# Altium integrated library lib_raspberry.IntLib: 3 symbols
Pins are listed as number, name and electrical type; pins without a type are passive.

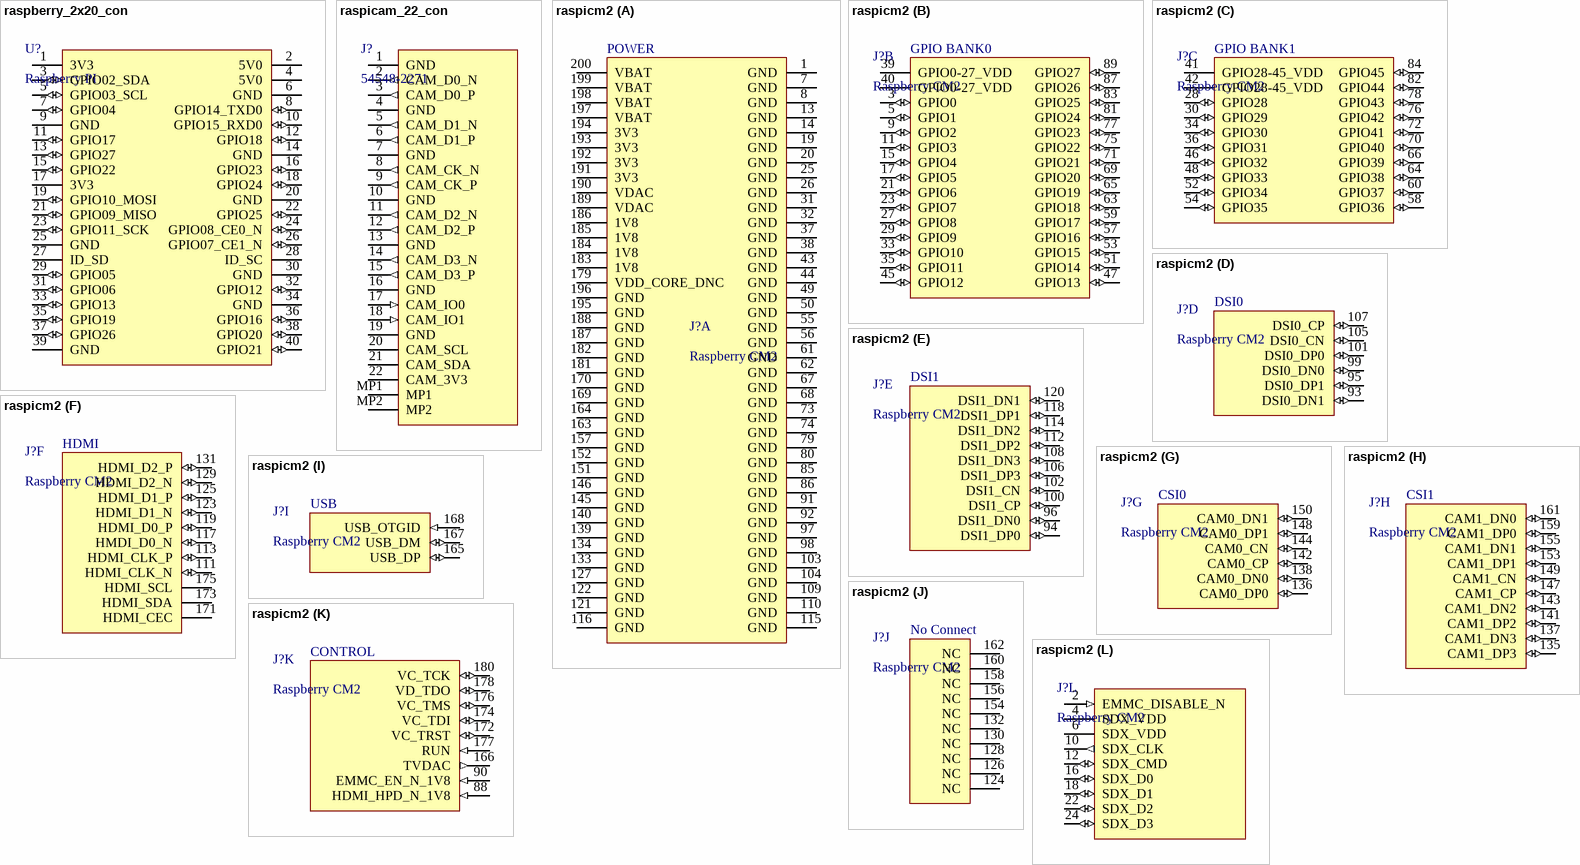
[diagram p0: symbols raspberry_2x20_con to raspicm2]

## raspberry_2x20_con
designator U?, comment Raspberry PI
Raspberry PI 2x20 connector
footprint raspi_male_con
pins: 1 3V3 (power), 2 5V0 (power), 3 GPIO02_SDA (io), 4 5V0 (power), 5 GPIO03_SCL (io), 6 GND (power), 7 GPIO04 (io), 8 GPIO14_TXD0 (io), 9 GND (power), 10 GPIO15_RXD0 (io), 11 GPIO17 (io), 12 GPIO18 (io), 13 GPIO27 (io), 14 GND (power), 15 GPIO22 (io), 16 GPIO23 (io), 17 3V3 (power), 18 GPIO24 (io), 19 GPIO10_MOSI (io), 20 GND (power), 21 GPIO09_MISO (io), 22 GPIO25 (io), 23 GPIO11_SCK (io), 24 GPIO08_CE0_N (io), 25 GND (power), 26 GPIO07_CE1_N (io), 27 ID_SD (oc), 28 ID_SC (oc), 29 GPIO05 (io), 30 GND (power), 31 GPIO06 (io), 32 GPIO12 (io), 33 GPIO13 (io), 34 GND (power), 35 GPIO19 (io), 36 GPIO16 (io), 37 GPIO26 (io), 38 GPIO20 (io), 39 GND (power), 40 GPIO21 (io)

## raspicam_22_con
designator J?, comment 54548-2271
0.5 mm Pitch Easy-On(TM) Type FPC Connector, 1.2 mm Mated Height, Right Angle, ZIF, SMT, Bottom Contact, 22 Circuits, -20 to 85 degC, ELV and RoHS Compliant, Tape and Reel; Manufacturer: Molex; Circuits (Loaded): 22; Stackable: No; Material - Plating Termination: Tin; PCB Retention: Yes; Entry Angle: 90degrees Angle; Material - Plating Mating: Gold; Current (Max per Contact): 0.5A; Material - Metal: Phosphor Bronze; Voltage (Max): 50V; Mated Height: 1.20mm; Pitch - Mating Interface: 0.50mm; Durability (mating cycles max): 20; PackageVersion: Rev. N, 06/2008; PackageDescription: 22-Lead FPC Connector, Pitch 0.5 mm; PackageReference: 54548-2271; ComponentLink2Description: Datasheet; PartNumber: 54548-2271; ComponentLink3URL: http://www.molex.com/pdm_docs/sd/545482171_sd.pdf; Contact Position: Bottom; Packing: Tape and Reel; ComponentLink1URL: http://www.molex.com/molex/index.jsp; Mounting Technology: Surface Mount; ComponentLink3Description: Package Specification; PCB Locator: No; ComponentLink2URL: http://www.molex.com/webdocs/datasheets/pdf/en-us/0545482271_FFC_FPC_CONNECTORS.pdf; Orientation: Right Angle; Number of Rows: 1; RoHS: TRUE; Polarized to PCB: Yes; ComponentLink1Description: Manufacturer URL
footprint MOLX-54548-2271 (FPC Connector, 22-Leads, Right Angle, Pitch 0.5 mm, Mated Height 1.2 mm, SMT)
pins: 1 GND (power), 2 CAM_D0_N (out), 3 CAM_D0_P (out), 4 GND (power), 5 CAM_D1_N (out), 6 CAM_D1_P (out), 7 GND (power), 8 CAM_CK_N (out), 9 CAM_CK_P (out), 10 GND (power), 11 CAM_D2_N (out), 12 CAM_D2_P (out), 13 GND (power), 14 CAM_D3_N (out), 15 CAM_D3_P (out), 16 GND (power), 17 CAM_IO0 (in), 18 CAM_IO1 (in), 19 GND (power), 20 CAM_SCL (oc), 21 CAM_SDA (oc), 22 CAM_3V3 (power), MP1, MP2

## raspicm2
designator J?, comment Raspberry CM2
footprint raspi_cm3
part A pins: 1 GND (power), 7 GND (power), 8 GND (power), 13 GND (power), 14 GND (power), 19 GND (power), 20 GND (power), 25 GND (power), 26 GND (power), 31 GND (power), 32 GND (power), 37 GND (power), 38 GND (power), 43 GND (power), 44 GND (power), 49 GND (power), 50 GND (power), 55 GND (power), 56 GND (power), 61 GND (power), 62 GND (power), 67 GND (power), 68 GND (power), 73 GND (power), 74 GND (power), 79 GND (power), 80 GND (power), 85 GND (power), 86 GND (power), 91 GND (power), 92 GND (power), 97 GND (power), 98 GND (power), 103 GND (power), 104 GND (power), 109 GND (power), 110 GND (power), 115 GND (power), 116 GND (power), 121 GND (power), 122 GND (power), 127 GND (power), 133 GND (power), 134 GND (power), 139 GND (power), 140 GND (power), 145 GND (power), 146 GND (power), 151 GND (power), 152 GND (power), 157 GND (power), 163 GND (power), 164 GND (power), 169 GND (power), 170 GND (power), 179 VDD_CORE_DNC (power), 181 GND (power), 182 GND (power), 183 1V8 (power), 184 1V8 (power), 185 1V8 (power), 186 1V8 (power), 187 GND (power), 188 GND (power), 189 VDAC (power), 190 VDAC (power), 191 3V3 (power), 192 3V3 (power), 193 3V3 (power), 194 3V3 (power), 195 GND (power), 196 GND (power), 197 VBAT (power), 198 VBAT (power), 199 VBAT (power), 200 VBAT (power)
part B pins: 3 GPIO0 (io), 5 GPIO1 (io), 9 GPIO2 (io), 11 GPIO3 (io), 15 GPIO4 (io), 17 GPIO5 (io), 21 GPIO6 (io), 23 GPIO7 (io), 27 GPIO8 (io), 29 GPIO9 (io), 33 GPIO10 (io), 35 GPIO11 (io), 39 GPIO0-27_VDD (power), 40 GPIO0-27_VDD (power), 45 GPIO12 (io), 47 GPIO13 (io), 51 GPIO14 (io), 53 GPIO15 (io), 57 GPIO16 (io), 59 GPIO17 (io), 63 GPIO18 (io), 65 GPIO19 (io), 69 GPIO20 (io), 71 GPIO21 (io), 75 GPIO22 (io), 77 GPIO23 (io), 81 GPIO24 (io), 83 GPIO25 (io), 87 GPIO26 (io), 89 GPIO27 (io)
part C pins: 28 GPIO28 (io), 30 GPIO29 (io), 34 GPIO30 (io), 36 GPIO31 (io), 41 GPIO28-45_VDD (power), 42 GPIO28-45_VDD (power), 46 GPIO32 (io), 48 GPIO33 (io), 52 GPIO34 (io), 54 GPIO35 (io), 58 GPIO36 (io), 60 GPIO37 (io), 64 GPIO38 (io), 66 GPIO39 (io), 70 GPIO40 (io), 72 GPIO41 (io), 76 GPIO42 (io), 78 GPIO43 (io), 82 GPIO44 (io), 84 GPIO45 (io)
part D pins: 93 DSI0_DN1 (io), 95 DSI0_DP1 (io), 99 DSI0_DN0 (io), 101 DSI0_DP0 (io), 105 DSI0_CN (io), 107 DSI0_CP (io)
part E pins: 94 DSI1_DP0 (io), 96 DSI1_DN0 (io), 100 DSI1_CP (io), 102 DSI1_CN (io), 106 DSI1_DP3 (io), 108 DSI1_DN3 (io), 112 DSI1_DP2 (io), 114 DSI1_DN2 (io), 118 DSI1_DP1 (io), 120 DSI1_DN1 (io)
part F pins: 111 HDMI_CLK_N (io), 113 HDMI_CLK_P (io), 117 HMDI_D0_N (io), 119 HDMI_D0_P (io), 123 HDMI_D1_N (io), 125 HDMI_D1_P (io), 129 HDMI_D2_N (io), 131 HDMI_D2_P (io), 171 HDMI_CEC (oc), 173 HDMI_SDA (oc), 175 HDMI_SCL (oc)
part G pins: 136 CAM0_DP0 (io), 138 CAM0_DN0 (io), 142 CAM0_CP (io), 144 CAM0_CN (io), 148 CAM0_DP1 (io), 150 CAM0_DN1 (io)
part H pins: 135 CAM1_DP3 (io), 137 CAM1_DN3 (io), 141 CAM1_DP2 (io), 143 CAM1_DN2 (io), 147 CAM1_CP (io), 149 CAM1_CN (io), 153 CAM1_DP1 (io), 155 CAM1_DN1 (io), 159 CAM1_DP0 (io), 161 CAM1_DN0 (io)
part I pins: 165 USB_DP (io), 167 USB_DM (io), 168 USB_OTGID (in)
part J pins: 124 NC, 126 NC, 128 NC, 130 NC, 132 NC, 154 NC, 156 NC, 158 NC, 160 NC, 162 NC
part K pins: 88 HDMI_HPD_N_1V8 (in), 90 EMMC_EN_N_1V8 (in), 166 TVDAC (out), 172 VC_TRST (io), 174 VC_TDI (io), 176 VC_TMS (io), 177 RUN (in), 178 VD_TDO (io), 180 VC_TCK (io)
part L pins: 2 EMMC_DISABLE_N (in), 4 SDX_VDD (power), 6 SDX_VDD (power), 10 SDX_CLK (out), 12 SDX_CMD (io), 16 SDX_D0 (io), 18 SDX_D1 (io), 22 SDX_D2 (io), 24 SDX_D3 (io)
part A text: POWER
part B text: GPIO BANK0
part C text: GPIO BANK1
part D text: DSI0
part E text: DSI1
part F text: HDMI
part G text: CSI0
part H text: CSI1
part I text: USB
part J text: No Connect
part K text: CONTROL